# Altium footprint library St7789.PcbLib: 1 footprints
Each footprint in its own frame and in the unit in brackets; x right, y up, seen from the top. Pads: shape width x height; smd on the part's side, far side on the other; paste and mask are expansions set on the pad; w line width, h text height; cw(c..) or ccw(c..) is an arc to the next point about the centre after c.
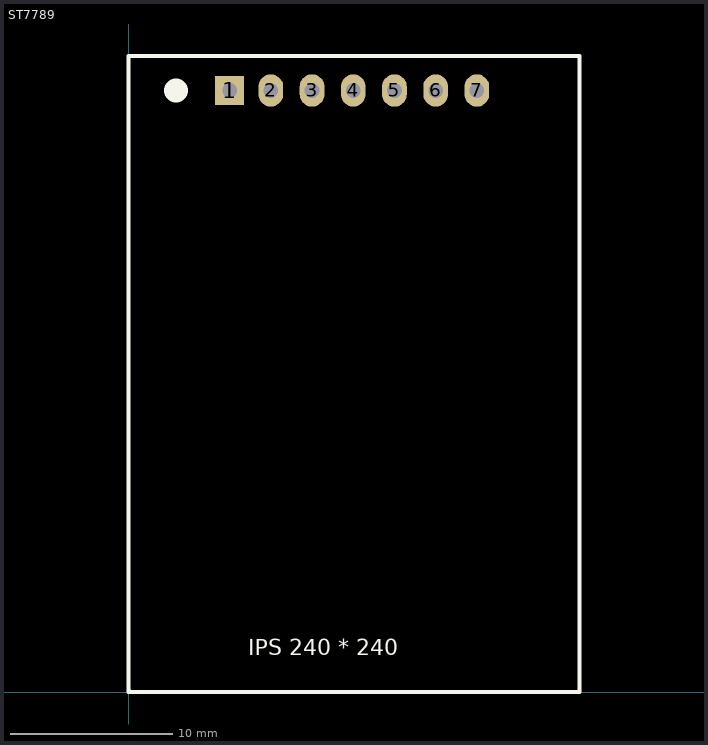
[diagram p0: the footprint, top view; thin cyan lines are the x and y axes]

## ST7789 [mil]
pads (7):
  rect 70.87x70.87 hole 35.43: 1(245,1460)
  oval 60x78.74 hole 35.43: 2(345,1460) 3(445,1460) 4(545,1460) 5(645,1460) 6(745,1460) 7(845,1460)
Top Overlay:
  circle w59.06: c115,1460 r0
  lines w10: 0,5 5,0 ; 0,0 1093.7,0 1093.7,1544.09 0,1544.09 0,0
  text "IPS 240 * 240" at 290,90 h39.37